# EAGLE library part ML2POLE (library WB-ML Switches)
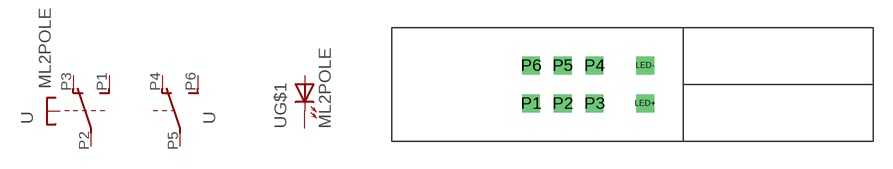
[diagram p1: symbol with the pads of 2POLE; footprint 2POLE]

Designator prefix -; gates G$1=LED G$2=TSU- G$3=U-2

## ML2POLE  [2POLE]
LED+  G$1:A  pas
LED-  G$1:K  pas
P1  G$2:S  pas
P2  G$2:P  pas
P3  G$2:O  pas
P4  G$3:O  pas
P5  G$3:P  pas
P6  G$3:S  pas

## Footprint 2POLE (pad centres in mm)
drill 0.9 square: LED+ 0,-3; LED- 0,0; P1 -9,-3; P2 -6.5,-3; P3 -4,-3; P4 -4,0; P5 -6.5,0; P6 -9,0